# EAGLE library part UI (library UI)
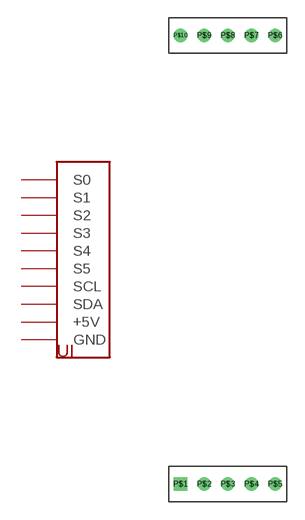
[diagram p0: symbol with the pads of UI; footprint UI]

Designator prefix -

## UI  [UI]
P$1  +5V
P$2  GND
P$3  S0
P$4  S1
P$5  S2
P$6  S3
P$7  S4
P$8  S5
P$9  SCL
P$10  SDA

## Footprint UI (pad centres in mm)
drill 0.6 square: P$1 1,-1.5
drill 0.6: P$2 3,-1.5; P$3 5,-1.5; P$4 7,-1.5; P$5 9,-1.5; P$6 9,36.5; P$7 7,36.5; P$8 5,36.5; P$9 3,36.5; P$10 1,36.5